# EAGLE library part MCP2562 (library automaton)
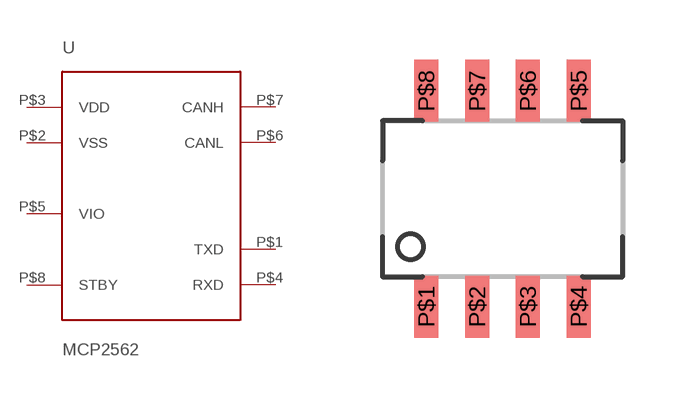
[diagram p6: symbol with the pads of MICROCHIP_SOIC8; footprint MICROCHIP_SOIC8]

Designator prefix -

## MCP2562SOIC8  [MICROCHIP_SOIC8]
P$1  TXD  in
P$2  VSS  pwr
P$3  VDD  pwr
P$4  RXD  out
P$5  VIO  pwr
P$6  CANL
P$7  CANH
P$8  STBY

## Footprint MICROCHIP_SOIC8 (pad centres in mm)
smd 0.6 x 1.55: P$1 -1.905,-2.7; P$2 -0.635,-2.7; P$3 0.635,-2.7; P$4 1.905,-2.7; P$5 1.905,2.7; P$6 0.635,2.7; P$7 -0.635,2.7; P$8 -1.905,2.7